# Altium schematic symbol library Inductors.SchLib: 8 symbols
Pins are listed as number, name and electrical type; pins without a type are passive.

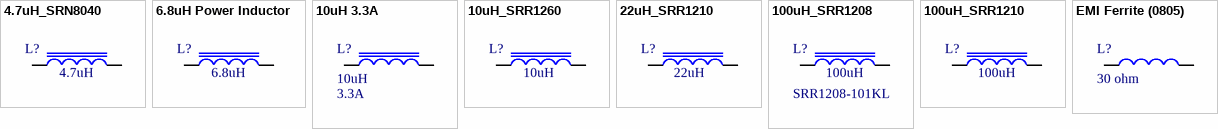
[diagram p0: symbols 4.7uH_SRN8040 to EMI Ferrite (0805)]

## 4.7uH_SRN8040
designator L?, comment 4.7uH
MFG: Bourns; MFG_PN: SRN8040-4R7Y; Value: 4.7uH
footprint Bourns_SRN8040
pins: 1, 2

## 6.8uH Power Inductor
designator L?, comment 6.8uH
6.8uH Shielded Power Inductor; MFG: SUMIDA; MFG_PN: CDRH3D28NP-6R8NC; CURRENT: 1.32A; SHIELDED: TRUE; LOAD: NL; RESISTANCE: 119m; Value: 6.8uH
footprint CDRH3D28NP-6R8NC
pins: 1, 2

## 10uH 3.3A
designator L?, comment 10uH  CURRENT: 3.3A
Inductor, 10uH, 3.3A; MFG: LAIRD; MFG_PN: TYS8040100M-10; RES: 29mOhm; ISAT: 3.6A; VALUE: 10uH
pins: 1, 2

## 10uH_SRR1260
designator L?, comment 10uH
MFG: Bourns; MFG_PN: SRR1260-100M; Value: 10uH
footprint SRR1260-100M
pins: 1, 2

## 22uH_SRR1210
designator L?, comment 22uH
MFG: Bourns; MFG_PN: SRR1210-220M; CURRENT: 5.2A; Value: 22uH
footprint Bourns_SRR1210 (SMD Inductor, 1210 package)
pins: 1, 2

## 100uH_SRR1208
designator L?, comment MFG_PN: SRR1208-101KL  (hidden comment: 100uH)
MFG: Bourns; CURRENT: 1.5A; RESISTANCE: 170u; ISAT: 2.1A; Value: 100uH
footprint SRR1208
pins: 1, 2

## 100uH_SRR1210
designator L?, comment 100uH
MFG: Bourns; MFG_PN: SRR1210-220M; Value: 100uH
footprint Bourns_SRR1210 (SMD Inductor, 1210 package)
pins: 1, 2

## EMI Ferrite (0805)
designator L?, comment 30 ohm
MFG: MURATA; MFG_PN: BLM21PG300SN1D; CURRENT: 3A; LOAD: NL; TOLERANCE: 20%; IMPEDANCE: 30 ohm
footprint RES0805R (resistor 0805 reflow soldering)
pins: 1, 2